# EAGLE library part 74LVC1T45GW (library sjg-logic)
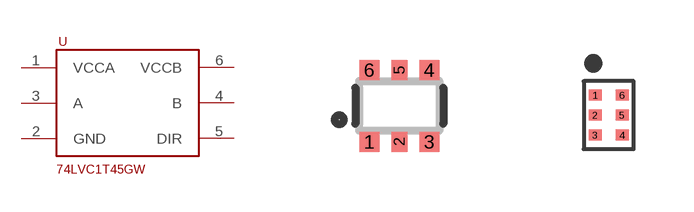
[diagram p4: symbol with the pads of SOT363; footprints SOT363, SOT886]

Designator prefix -

## 74LVC1T45GW  [SOT363]
1  VCCA
2  GND
3  A
4  B
5  DIR
6  VCCB

## 74LVC1T45GWSOT866  [SOT886]
Pads as for SOT363

## Footprint SOT363 (pad centres in mm)
Source: http://www.nxp.com/documents/data_sheet/2N7002PS.pdf
smd 0.5 x 0.5: 1 -0.75,-0.9; 3 0.75,-0.9; 4 0.75,0.9; 6 -0.75,0.9
smd 0.4 x 0.5: 2 0,-0.9; 5 0,0.9

## Footprint SOT886 (pad centres in mm)
SOT-886 Source: PRTR5V0U2F
smd 0.325 x 0.27: 1 -0.338,0.5; 2 -0.338,0; 3 -0.338,-0.5; 4 0.338,-0.5; 5 0.338,0; 6 0.338,0.5